# Altium footprint library C3D1P7060Q.PcbLib: 1 footprints
Each footprint in its own frame and in the unit in brackets; x right, y up, seen from the top. Pads: shape width x height; smd on the part's side, far side on the other; paste and mask are expansions set on the pad; w line width, h text height; cw(c..) or ccw(c..) is an arc to the next point about the centre after c.
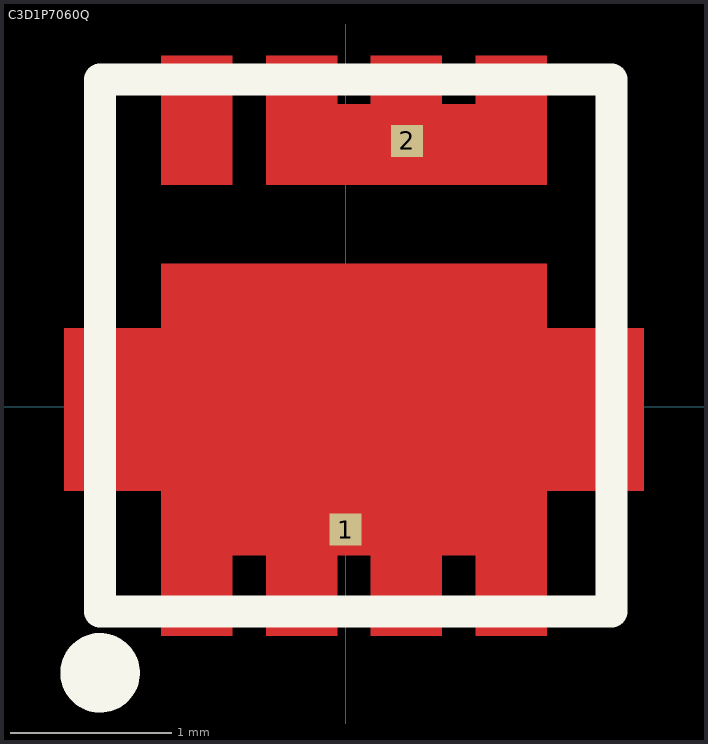
[diagram p0: the footprint, top view; thin cyan lines are the x and y axes]

## C3D1P7060Q [mm]
pads (2):
  rect 0.2x0.2 smd paste+0 mask+0: 1(0,-0.762)
  rect 0.2x0.2 smd paste+0: 2(0.381,1.651)
Top Layer:
  region: -1.143,0.889 1.247,0.889 1.247,0.489 1.852,0.489 1.852,-0.521 1.247,-0.521 1.247,-1.421 0.807,-1.421 0.807,-0.921 0.597,-0.921 0.597,-1.421 0.157,-1.421 0.157,-0.921 -0.053,-0.921 -0.053,-1.421 -0.493,-1.421 -0.493,-0.921 -0.703,-0.921 -0.703,-1.421 -1.143,-1.421 -1.143,-0.521 -1.748,-0.521 -1.748,0.489 -1.143,0.489
  region: -0.493,1.379 1.247,1.379 1.247,2.179 0.807,2.179 0.807,1.879 0.597,1.879 0.597,2.179 0.157,2.179 0.157,1.879 -0.053,1.879 -0.053,2.179 -0.493,2.179
  region: -1.143,1.379 -0.703,1.379 -0.703,2.179 -1.143,2.179
Top Overlay:
  circle w0.254: c-1.524,-1.651 r0.12
  lines w0.2: 1.651,-1.27 1.651,2.032 ; 1.651,-1.27 -1.524,-1.27 -1.524,2.032 1.651,2.032 ; 1.651,-1.27 1.651,2.032
Top Paste:
  region: -1.143,0.889 1.247,0.889 1.247,0.489 1.852,0.489 1.852,-0.521 1.247,-0.521 1.247,-1.421 0.807,-1.421 0.807,-0.921 0.597,-0.921 0.597,-1.421 0.157,-1.421 0.157,-0.921 -0.053,-0.921 -0.053,-1.421 -0.493,-1.421 -0.493,-0.921 -0.703,-0.921 -0.703,-1.421 -1.143,-1.421 -1.143,-0.521 -1.748,-0.521 -1.748,0.489 -1.143,0.489
  region: -0.493,1.379 1.247,1.379 1.247,2.179 0.807,2.179 0.807,1.879 0.597,1.879 0.597,2.179 0.157,2.179 0.157,1.879 -0.053,1.879 -0.053,2.179 -0.493,2.179
  region: -1.143,1.379 -0.703,1.379 -0.703,2.179 -1.143,2.179
Top Solder:
  region: -1.143,0.889 1.247,0.889 1.247,0.489 1.852,0.489 1.852,-0.521 1.247,-0.521 1.247,-1.421 0.807,-1.421 0.807,-0.921 0.597,-0.921 0.597,-1.421 0.157,-1.421 0.157,-0.921 -0.053,-0.921 -0.053,-1.421 -0.493,-1.421 -0.493,-0.921 -0.703,-0.921 -0.703,-1.421 -1.143,-1.421 -1.143,-0.521 -1.748,-0.521 -1.748,0.489 -1.143,0.489
  region: -0.493,1.379 1.247,1.379 1.247,2.179 0.807,2.179 0.807,1.879 0.597,1.879 0.597,2.179 0.157,2.179 0.157,1.879 -0.053,1.879 -0.053,2.179 -0.493,2.179
  region: -1.143,1.379 -0.703,1.379 -0.703,2.179 -1.143,2.179